# Altium schematic symbol library 436500200.SchLib: 1 symbol
Pins are listed as number, name and electrical type; pins without a type are passive.

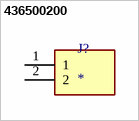
[diagram p0: symbol 436500200]

## 436500200
designator J?
MP: 436500200; MF: {'manufacturer': u'Molex'}; Availability: Unavailable; Price: None; Value: *; Package: None
footprint MOLEX_436500200
pins: 1, 2